# EAGLE library part MCP4017T (library wedfestdress)
MCP4017 IC, 7-Bit Single I2C Digital Rheostat with Volatile Memory in SC-70-6 Features • Potentiometer or Rheostat configuration options • 7-bit: Resistor Network Resolution - 127 Resistors (128 Steps) • Zero Scale to Full Scale Wiper operation • RAB Resistances: 5 kΩ, 10 kΩ, 50 kΩ, or 100 kΩ • Low Wiper Resistance: 100Ω (typical) • Low Tempco: - Absolute (Rheostat): 50 ppm typical (0°C to 70°C) - Ratiometric (Potentiometer): 10 ppm typical • Simple I2C Protocol with read & write commands • Brown-out reset protection (1.5V typical) • Power-on Default Wiper Setting (Mid-scale) • Low-Power Operation: - 2.5 μA Static Current (typical) • Wide Operating Voltage Range: - 2.7V to 5.5V - Device Characteristics Specified - 1.8V to 5.5V - Device Operation • Wide Bandwidth (-3 dB) Operation: - 2 MHz (typical) for 5.0 kΩ device • Extended temperature range (-40°C to +125°C) • Very small package (SC70) • Lead free (Pb-free) package
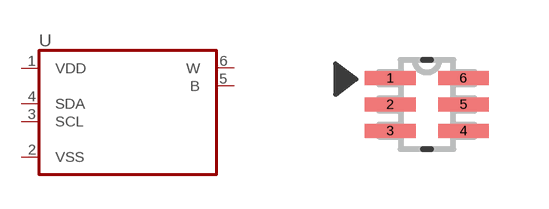
[diagram p0: symbol with the pads of SOT65P210X110-6N; footprint SOT65P210X110-6N]

Designator prefix U

## MCP4017T (COST_X1: 0.53; COST_X100: 0.4017; COST_X500: 0.4017; DESCRIPTION: Digital potentiometer, 100k, 100 taps, I2C; DISPLAY: 100km 128 taps; DISTRIBUTOR: Digikey; DIST_PART_NO: MCP4017T-104E/LTCT-ND; MFG: Microchip; MFG_PART_NO: MCP4017T-104E/LT; PACKAGE: SC-70-6)  [SOT65P210X110-6N]
1  VDD  pwr
2  VSS  pwr
3  SCL
4  SDA
5  B
6  W

## Footprint SOT65P210X110-6N (pad centres in mm)
smd 1.27 x 0.356: 1 -0.914,0.66; 2 -0.914,0; 3 -0.914,-0.66; 4 0.914,-0.66; 5 0.914,0; 6 0.914,0.66